# Altium footprint library TO252-2.PcbLib: 1 footprints
Each footprint in its own frame and in the unit in brackets; x right, y up, seen from the top. Pads: shape width x height; smd on the part's side, far side on the other; paste and mask are expansions set on the pad; w line width, h text height; cw(c..) or ccw(c..) is an arc to the next point about the centre after c.
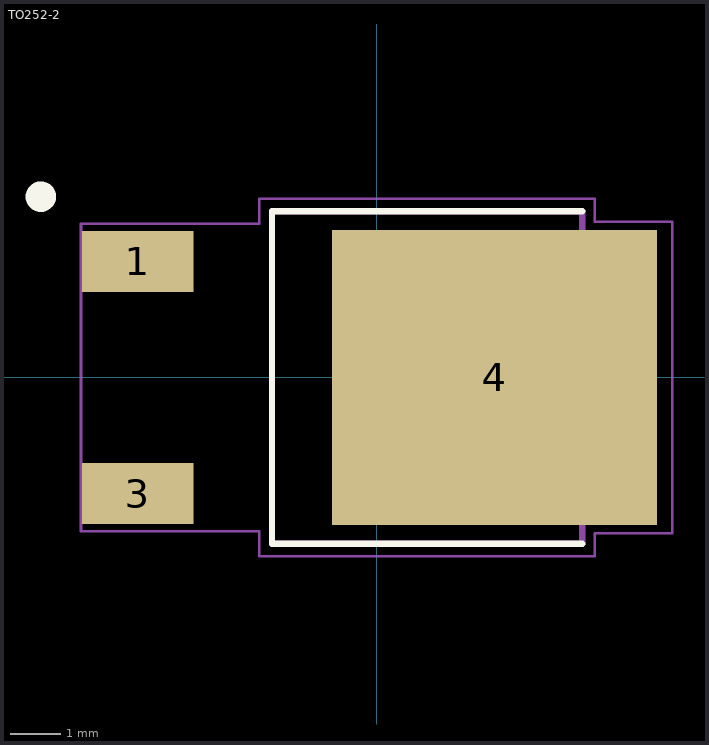
[diagram p0: the footprint, top view; thin cyan lines are the x and y axes]

## TO252-2 [mm]
height 3
pads (3):
  rect 2.2x1.2 smd: 1(-4.7,2.285) 3(-4.7,-2.285)
  rect 6.4x5.8 smd paste-4: 4(2.32,0)
Top Overlay:
  circle w0.4: c-6.604,3.556 r0.1
  lines w0.127: 4.043,-3.27 -2.058,-3.27 -2.058,3.27 4.043,3.27
Top Paste:
  region: 3.035,0.555 1.605,0.555 1.605,2.265 3.035,2.265
  region: 0.865,0.555 -0.565,0.555 -0.565,2.265 0.865,2.265
  region: 0.865,-2.265 -0.565,-2.265 -0.565,-0.555 0.865,-0.555
  region: 3.035,-2.265 1.605,-2.265 1.605,-0.555 3.035,-0.555
  region: 5.205,-2.265 3.775,-2.265 3.775,-0.555 5.205,-0.555
  region: 5.205,0.555 3.775,0.555 3.775,2.265 5.205,2.265
Mechanical 13:
  lines w0.127: -2.058,-3.27 -2.058,3.27 4.043,3.27 4.043,-3.27 -2.058,-3.27
Mechanical 15:
  lines w0.05: -5.815,-3.025 -5.815,3.025 -2.308,3.025 -2.308,3.52 4.293,3.52 4.293,3.065 5.815,3.065 5.815,-3.065 4.293,-3.065 4.293,-3.52 -2.308,-3.52 -2.308,-3.025 -5.815,-3.025
3D body "step_temp.STEP": height 2.55, standoff -0.17, extent -4.955,-3.27 4.955,3.27